# EAGLE library part STM32L476 (library SmartWatch)
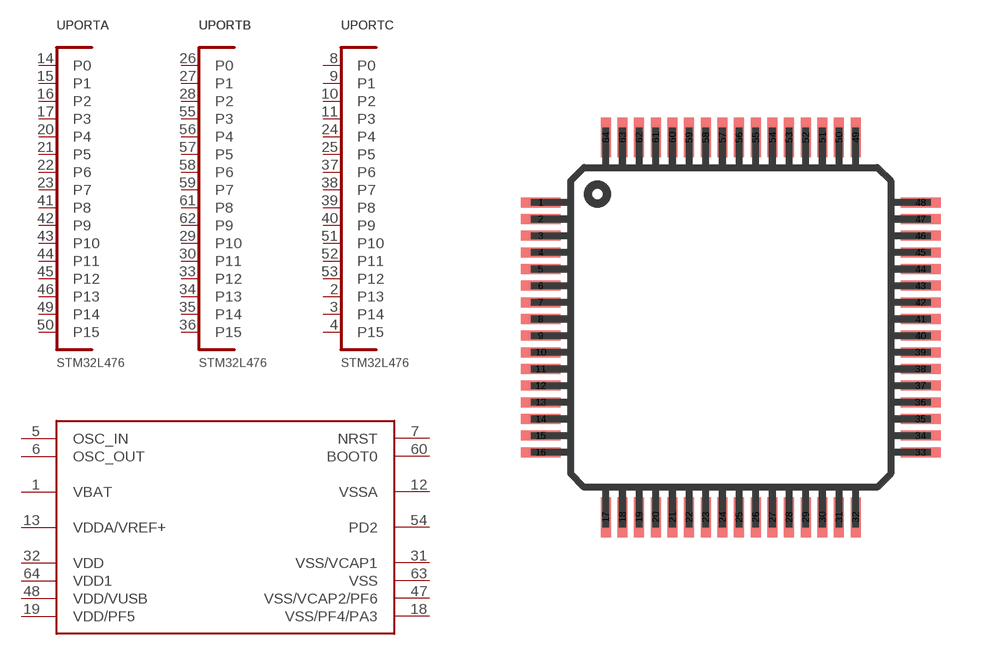
[diagram p2: symbol with the pads of TQFP64-10X10; footprint TQFP64-10X10]

Designator prefix -; gates PORTA=IO_PORT PORTB=IO_PORT PORTC=IO_PORT G$4=STM32L476

## STM32L476  [TQFP64-10X10]
1  G$4:VBAT
2  PORTC:P13
3  PORTC:P14
4  PORTC:P15
5  G$4:OSC_IN
6  G$4:OSC_OUT
7  G$4:NRST
8  PORTC:P0
9  PORTC:P1
10  PORTC:P2
11  PORTC:P3
12  G$4:VSSA
13  G$4:VDDA/VREF+
14  PORTA:P0
15  PORTA:P1
16  PORTA:P2
17  PORTA:P3
18  G$4:VSS/PF4/PA3
19  G$4:VDD/PF5
20  PORTA:P4
21  PORTA:P5
22  PORTA:P6
23  PORTA:P7
24  PORTC:P4
25  PORTC:P5
26  PORTB:P0
27  PORTB:P1
28  PORTB:P2
29  PORTB:P10
30  PORTB:P11
31  G$4:VSS/VCAP1
32  G$4:VDD
33  PORTB:P12
34  PORTB:P13
35  PORTB:P14
36  PORTB:P15
37  PORTC:P6
38  PORTC:P7
39  PORTC:P8
40  PORTC:P9
41  PORTA:P8
42  PORTA:P9
43  PORTA:P10
44  PORTA:P11
45  PORTA:P12
46  PORTA:P13
47  G$4:VSS/VCAP2/PF6
48  G$4:VDD/VUSB
49  PORTA:P14
50  PORTA:P15
51  PORTC:P10
52  PORTC:P11
53  PORTC:P12
54  G$4:PD2
55  PORTB:P3
56  PORTB:P4
57  PORTB:P5
58  PORTB:P6
59  PORTB:P7
60  G$4:BOOT0
61  PORTB:P8
62  PORTB:P9
63  G$4:VSS
64  G$4:VDD1

## Footprint TQFP64-10X10 (pad centres in mm)
Thin Quad Flat Pack package type TQ
smd 1.2 x 0.3: 1 -5.7,3.75; 2 -5.7,3.25; 3 -5.7,2.75; 4 -5.7,2.25; 5 -5.7,1.75; 6 -5.7,1.25; 7 -5.7,0.75; 8 -5.7,0.25; 9 -5.7,-0.25; 10 -5.7,-0.75; 11 -5.7,-1.25; 12 -5.7,-1.75; 13 -5.7,-2.25; 14 -5.7,-2.75; 15 -5.7,-3.25; 16 -5.7,-3.75; 33 5.7,-3.75; 34 5.7,-3.25; 35 5.7,-2.75; 36 5.7,-2.25; 37 5.7,-1.75; 38 5.7,-1.25; 39 5.7,-0.75; 40 5.7,-0.25; 41 5.7,0.25; 42 5.7,0.75; 43 5.7,1.25; 44 5.7,1.75; 45 5.7,2.25; 46 5.7,2.75; 47 5.7,3.25; 48 5.7,3.75
smd 0.3 x 1.2: 17 -3.75,-5.7; 18 -3.25,-5.7; 19 -2.75,-5.7; 20 -2.25,-5.7; 21 -1.75,-5.7; 22 -1.25,-5.7; 23 -0.75,-5.7; 24 -0.25,-5.7; 25 0.25,-5.7; 26 0.75,-5.7; 27 1.25,-5.7; 28 1.75,-5.7; 29 2.25,-5.7; 30 2.75,-5.7; 31 3.25,-5.7; 32 3.75,-5.7; 49 3.75,5.7; 50 3.25,5.7; 51 2.75,5.7; 52 2.25,5.7; 53 1.75,5.7; 54 1.25,5.7; 55 0.75,5.7; 56 0.25,5.7; 57 -0.25,5.7; 58 -0.75,5.7; 59 -1.25,5.7; 60 -1.75,5.7; 61 -2.25,5.7; 62 -2.75,5.7; 63 -3.25,5.7; 64 -3.75,5.7